# Altium footprint library TC_PCC-SMD.PcbLib: 1 footprints
Each footprint in its own frame and in the unit in brackets; x right, y up, seen from the top. Pads: shape width x height; smd on the part's side, far side on the other; paste and mask are expansions set on the pad; w line width, h text height; cw(c..) or ccw(c..) is an arc to the next point about the centre after c.
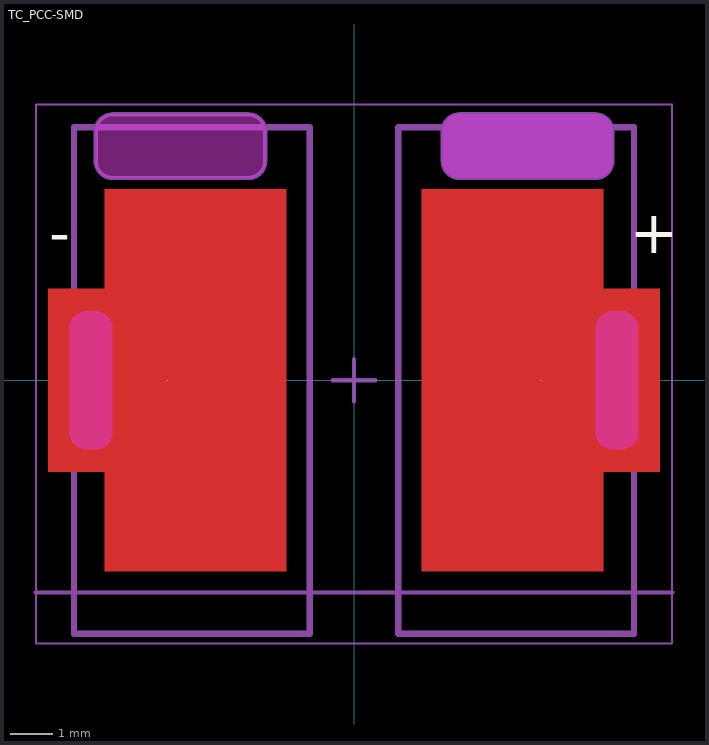
[diagram p0: the footprint, top view; thin cyan lines are the x and y axes]

## TC_PCC-SMD [mm] "SMD universal thermocouple connector"
height 2.4
pads (18):
  round 0.025 smd paste-2539.97 mask+0.102: 1(4.405,0) 2(-4.405,0)
  rect 2.7x1.5 on Top Paste: ""(-5.335,-1) ""(5.335,-1)
  rect 2.7x1.5 on Top Paste mask+0: ""(-5.335,1) ""(5.335,1)
  rect 1.65x1.95 on Top Paste: ""(-4.81,-3.225) ""(-4.81,3.225) ""(-2.66,-3.225) ""(-2.66,3.225) ""(2.66,-3.225) ""(2.66,3.225) ""(4.81,-3.225) ""(4.81,3.225)
  rect 1.65x1.5 on Top Paste: ""(-2.66,-1) ""(-2.66,1) ""(2.66,-1) ""(2.66,1)
Top Layer:
  region: -1.6,-4.5 -1.6,4.5 -5.87,4.5 -5.87,2.16 -7.21,2.16 -7.21,-2.16 -5.87,-2.16 -5.87,-4.5
  region: 1.6,-4.5 1.6,4.5 5.87,4.5 5.87,2.16 7.21,2.16 7.21,-2.16 5.87,-2.16 5.87,-4.5
Top Overlay:
  text "+" at 6.5,3 h1
  text "-" at -7.18,3 h1
Keep-Out Layer:
  board cut-out: 2.09,5.17 2.09,5.87 2.09,5.95 2.151,6.097 2.263,6.209 2.41,6.27 2.49,6.27 5.69,6.27 5.77,6.27 5.917,6.209 6.029,6.097 6.09,5.95 6.09,5.87 6.09,5.17 6.09,5.09 6.029,4.943 5.917,4.831 5.77,4.77 5.69,4.77 2.49,4.77 2.41,4.77 2.263,4.831 2.151,4.943 2.09,5.09
  board cut-out: -6.09,5.17 -6.09,5.87 -6.09,5.95 -6.029,6.097 -5.917,6.209 -5.77,6.27 -5.69,6.27 -2.49,6.27 -2.41,6.27 -2.263,6.209 -2.151,6.097 -2.09,5.95 -2.09,5.87 -2.09,5.17 -2.09,5.09 -2.151,4.943 -2.263,4.831 -2.41,4.77 -2.49,4.77 -5.69,4.77 -5.77,4.77 -5.917,4.831 -6.029,4.943 -6.09,5.09
  board cut-out: -6.7,-1.225 -6.7,1.225 -6.7,1.305 -6.639,1.452 -6.527,1.564 -6.38,1.625 -6.3,1.625 -6.1,1.625 -6.02,1.625 -5.873,1.564 -5.761,1.452 -5.7,1.305 -5.7,1.225 -5.7,-1.225 -5.7,-1.305 -5.761,-1.452 -5.873,-1.564 -6.02,-1.625 -6.1,-1.625 -6.3,-1.625 -6.38,-1.625 -6.527,-1.564 -6.639,-1.452 -6.7,-1.305
  board cut-out: 5.7,-1.225 5.7,1.225 5.7,1.305 5.761,1.452 5.873,1.564 6.02,1.625 6.1,1.625 6.3,1.625 6.38,1.625 6.527,1.564 6.639,1.452 6.7,1.305 6.7,1.225 6.7,-1.225 6.7,-1.305 6.639,-1.452 6.527,-1.564 6.38,-1.625 6.3,-1.625 6.1,-1.625 6.02,-1.625 5.873,-1.564 5.761,-1.452 5.7,-1.305
Panel Outline:
  cavity: 2.09,5.17 2.09,5.87 2.09,5.95 2.151,6.097 2.263,6.209 2.41,6.27 2.49,6.27 5.69,6.27 5.77,6.27 5.917,6.209 6.029,6.097 6.09,5.95 6.09,5.87 6.09,5.17 6.09,5.09 6.029,4.943 5.917,4.831 5.77,4.77 5.69,4.77 2.49,4.77 2.41,4.77 2.263,4.831 2.151,4.943 2.09,5.09
PCB Info:
  lines w0.1: -7.5,-5 7.5,-5
Comp Outl Top SMD:
  lines w0.15: -6.6,-5.969 -1.04,-5.969 -1.04,5.969 -6.6,5.969 -6.6,-5.969 ; 1.04,-5.969 6.6,-5.969 6.6,5.969 1.04,5.969 1.04,-5.969
Desg Top SMD:
  text ".Designator" at -2.225,0.5 h2
Value Top SMD:
  text ".Comment" at -3.725,-3.5 h1.2
Courtyard Top:
  lines w0.05: -7.5,-6.2 7.5,-6.2 7.5,6.5 -7.5,6.5 -7.5,-6.2
  lines w0.1: -0.5,0 0.5,0 ; 0,-0.5 0,0.5
Miller Layer:
  lines w0.1: -6.7,-1.225 ccw(c-6.3,-1.225) -6.3,-1.625 -6.1,-1.625 ccw(c-6.1,-1.225) -5.7,-1.225 -5.7,1.225 ccw(c-6.1,1.225) -6.1,1.625 -6.3,1.625 ccw(c-6.3,1.225) -6.7,1.225 -6.7,-1.225 ; -6.09,5.17 ccw(c-5.69,5.17) -5.69,4.77 -2.49,4.77 ccw(c-2.49,5.17) -2.09,5.17 -2.09,5.87 ccw(c-2.49,5.87) -2.49,6.27 -5.69,6.27 ccw(c-5.69,5.87) -6.09,5.87 -6.09,5.17 ; 2.09,5.17 ccw(c2.49,5.17) 2.49,4.77 5.69,4.77 ccw(c5.69,5.17) 6.09,5.17 6.09,5.87 ccw(c5.69,5.87) 5.69,6.27 2.49,6.27 ccw(c2.49,5.87) 2.09,5.87 2.09,5.17 ; 5.7,-1.225 ccw(c6.1,-1.225) 6.1,-1.625 6.3,-1.625 ccw(c6.3,-1.225) 6.7,-1.225 6.7,1.225 ccw(c6.3,1.225) 6.3,1.625 6.1,1.625 ccw(c6.1,1.225) 5.7,1.225 5.7,-1.225
3D body "PCC-SMD-1000.stp": height 2.45, standoff -0.65, extent 1.04,-5.969 6.6,5.969
3D body "PCC-SMD-1000.stp": height 2.45, standoff -0.65, extent -6.6,-5.969 -1.04,5.969